# Altium schematic symbol library Connectors.SchLib: 32 symbols
Pins are listed as number, name and electrical type; pins without a type are passive.

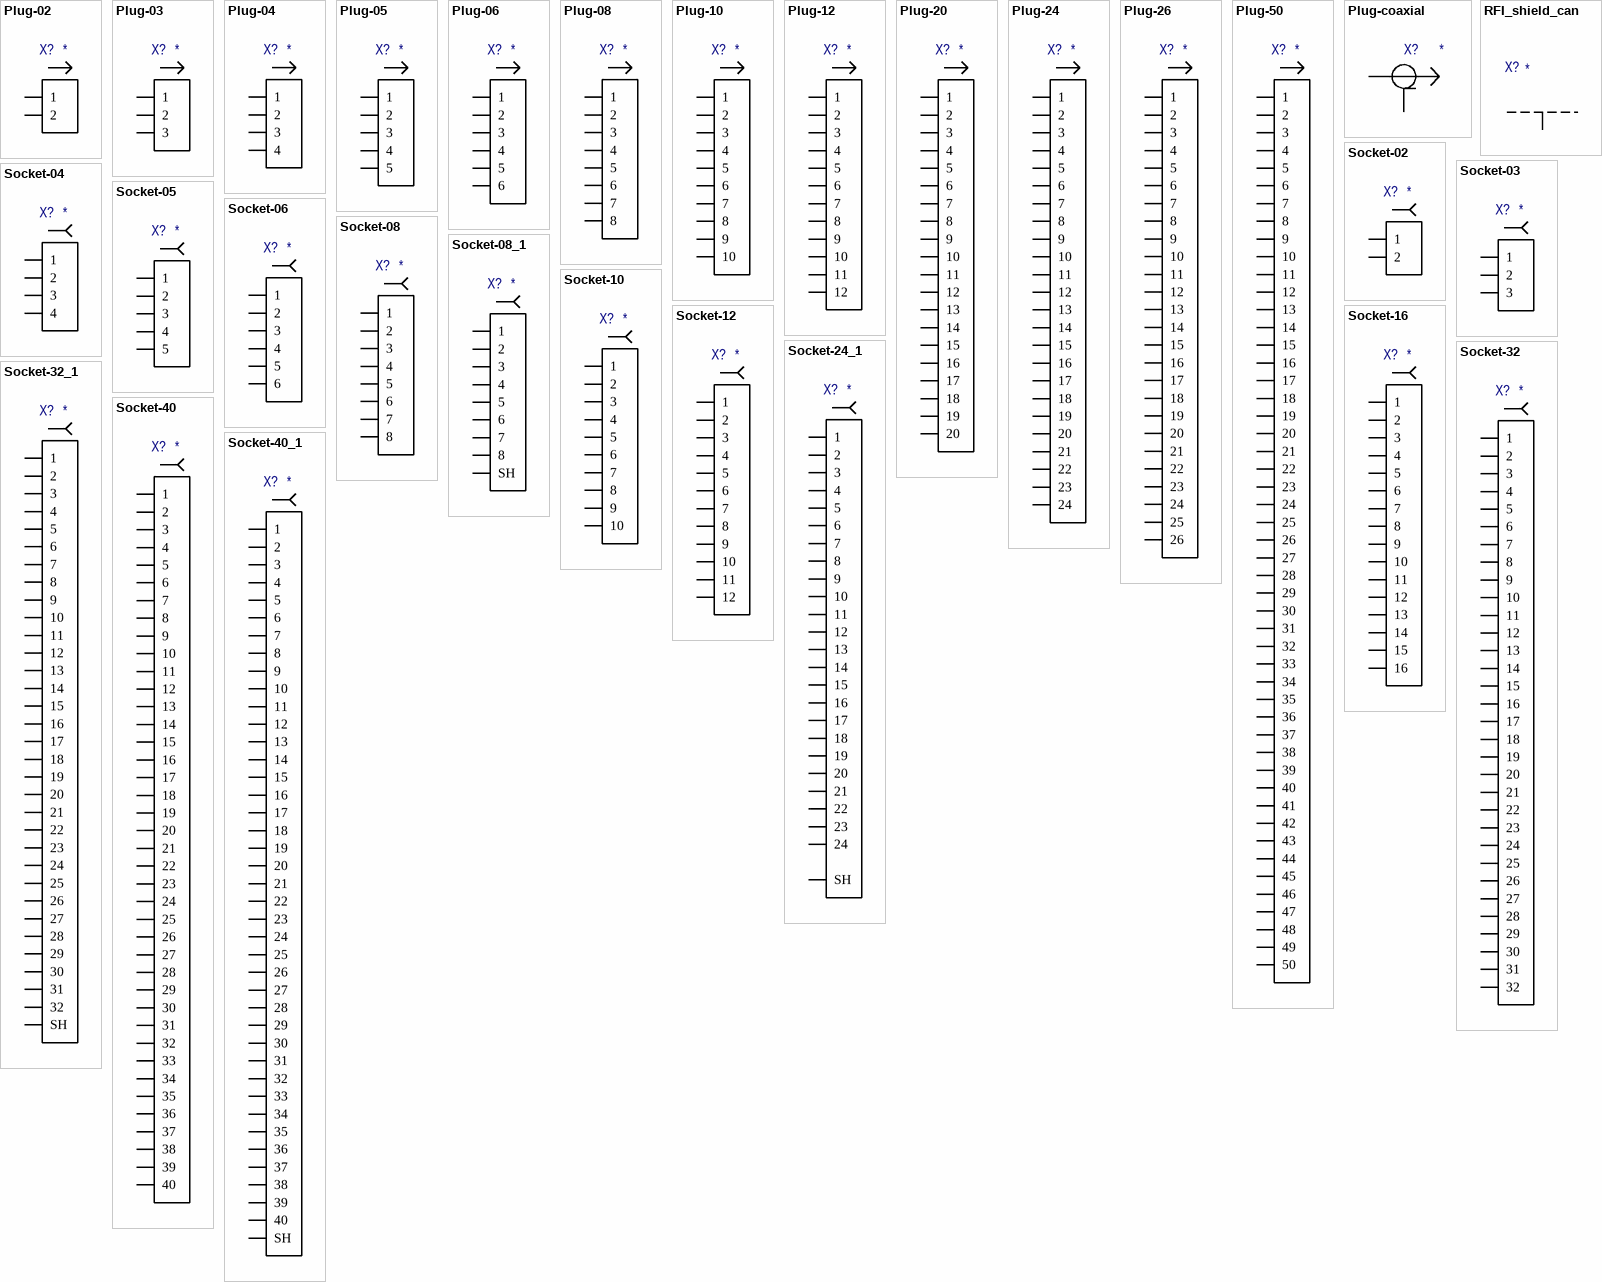
[diagram p0: symbols Plug-02 to Socket-40_1]

## Plug-02
designator X?
Manufacturer: *; Part Number: *
pins: 1, 2

## Plug-03
designator X?
Manufacturer: *; Part Number: *
pins: 1, 2, 3

## Plug-04
designator X?
Manufacturer: *; Part Number: *
pins: 1, 2, 3, 4

## Plug-05
designator X?
Manufacturer: *; Part Number: *
pins: 1, 2, 3, 4, 5

## Plug-06
designator X?
Manufacturer: *; Part Number: *
pins: 1, 2, 3, 4, 5, 6

## Plug-08
designator X?
Manufacturer: *; Part Number: *
pins: 1, 2, 3, 4, 5, 6, 7, 8

## Plug-10
designator X?
Manufacturer: *; Part Number: *
pins: 1, 2, 3, 4, 5, 6, 7, 8, 9, 10

## Plug-12
designator X?
Manufacturer: *; Part Number: *
pins: 1, 2, 3, 4, 5, 6, 7, 8, 9, 10, 11, 12

## Plug-20
designator X?
Manufacturer: *; Part Number: *
pins: 1, 2, 3, 4, 5, 6, 7, 8, 9, 10, 11, 12, 13, 14, 15, 16, 17, 18, 19, 20

## Plug-24
designator X?
Manufacturer: *; Part Number: *
pins: 1, 2, 3, 4, 5, 6, 7, 8, 9, 10, 11, 12, 13, 14, 15, 16, 17, 18, 19, 20, 21, 22, 23, 24

## Plug-26
designator X?
Manufacturer: *; Part Number: *
pins: 1, 2, 3, 4, 5, 6, 7, 8, 9, 10, 11, 12, 13, 14, 15, 16, 17, 18, 19, 20, 21, 22, 23, 24, 25, 26

## Plug-50
designator X?
Manufacturer: *; Part Number: *
pins: 1, 2, 3, 4, 5, 6, 7, 8, 9, 10, 11, 12, 13, 14, 15, 16, 17, 18, 19, 20, 21, 22, 23, 24, 25, 26, 27, 28, 29, 30, 31, 32, 33, 34, 35, 36, 37, 38, 39, 40, 41, 42, 43, 44, 45, 46, 47, 48, 49, 50

## Plug-coaxial
designator X?
Вилка коаксиального разъема; Manufacturer: *; Part Number: *
pins: 1, 2

## RFI_shield_can
designator X?
Резонатор кварцевый; Part Number: *; Manufacturer: *
pins: PAD

## Socket-02
designator X?
Гнездо разъема, 2 контакта.; Manufacturer: *; Part Number: *
pins: 1, 2

## Socket-03
designator X?
Гнездо разъема, 3 контакта.; Manufacturer: *; Part Number: *
pins: 1, 2, 3

## Socket-04
designator X?
Гнездо разъема, 4 контакта.; Manufacturer: *; Part Number: *
pins: 1, 2, 3, 4

## Socket-05
designator X?
Гнездо разъема, 6 контактов.; Manufacturer: *; Part Number: *
pins: 1, 2, 3, 4, 5

## Socket-06
designator X?
Гнездо разъема, 6 контактов.; Manufacturer: *; Part Number: *
pins: 1, 2, 3, 4, 5, 6

## Socket-08
designator X?
Гнездо разъема, 8 контактов.; Manufacturer: *; Part Number: *
pins: 1, 2, 3, 4, 5, 6, 7, 8

## Socket-08_1
designator X?
Гнездо разъема, 8 контактов.; Manufacturer: *; Part Number: *
pins: 1, 2, 3, 4, 5, 6, 7, 8, SH

## Socket-10
designator X?
Гнездо разъема, 10 контактов.; Manufacturer: *; Part Number: *
pins: 1, 2, 3, 4, 5, 6, 7, 8, 9, 10

## Socket-12
designator X?
Гнездо разъема, 12 контактов.; Manufacturer: *; Part Number: *
pins: 1, 2, 3, 4, 5, 6, 7, 8, 9, 10, 11, 12

## Socket-16
designator X?
Гнездо разъема, 16 контактов.; Manufacturer: *; Part Number: *
pins: 1, 2, 3, 4, 5, 6, 7, 8, 9, 10, 11, 12, 13, 14, 15, 16

## Socket-24_1
designator X?
Гнездо разъема, 16 контактов.; Manufacturer: *; Part Number: *
pins: 1, 2, 3, 4, 5, 6, 7, 8, 9, 10, 11, 12, 13, 14, 15, 16, 17, 18, 19, 20, 21, 22, 23, 24, SH

## Socket-32
designator X?
Гнездо разъема, 16 контактов.; Manufacturer: *; Part Number: *
pins: 1, 2, 3, 4, 5, 6, 7, 8, 9, 10, 11, 12, 13, 14, 15, 16, 17, 18, 19, 20, 21, 22, 23, 24, 25, 26, 27, 28, 29, 30, 31, 32

## Socket-32_1
designator X?
Гнездо разъема, 16 контактов.; Manufacturer: *; Part Number: *
pins: 1, 2, 3, 4, 5, 6, 7, 8, 9, 10, 11, 12, 13, 14, 15, 16, 17, 18, 19, 20, 21, 22, 23, 24, 25, 26, 27, 28, 29, 30, 31, 32, SH

## Socket-40
designator X?
Гнездо разъема, 16 контактов.; Manufacturer: *; Part Number: *
pins: 1, 2, 3, 4, 5, 6, 7, 8, 9, 10, 11, 12, 13, 14, 15, 16, 17, 18, 19, 20, 21, 22, 23, 24, 25, 26, 27, 28, 29, 30, 31, 32, 33, 34, 35, 36, 37, 38, 39, 40

## Socket-40_1
designator X?
Гнездо разъема, 16 контактов.; Manufacturer: *; Part Number: *
pins: 1, 2, 3, 4, 5, 6, 7, 8, 9, 10, 11, 12, 13, 14, 15, 16, 17, 18, 19, 20, 21, 22, 23, 24, 25, 26, 27, 28, 29, 30, 31, 32, 33, 34, 35, 36, 37, 38, 39, 40, SH

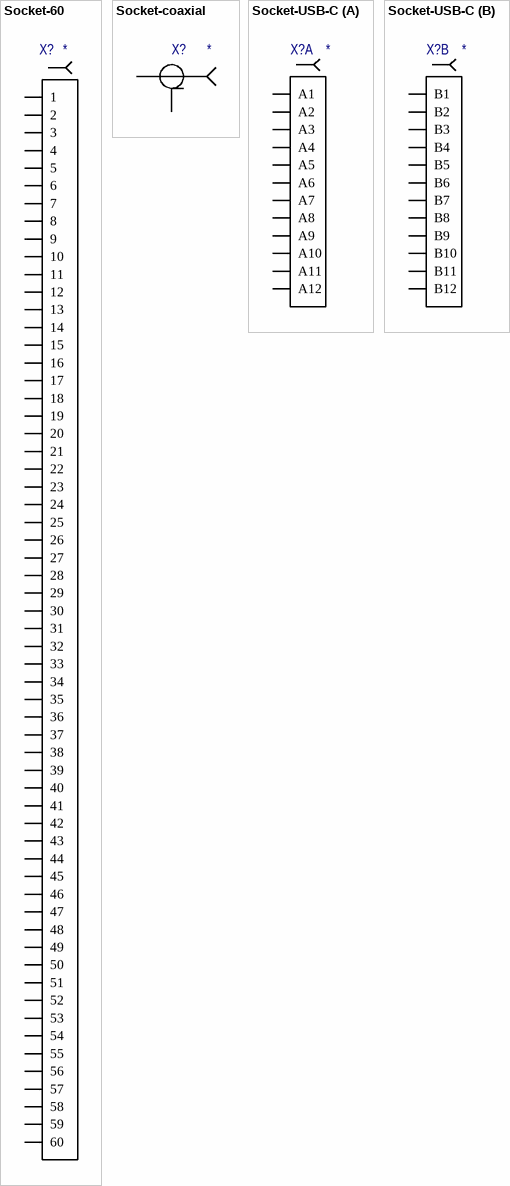
[diagram p1: symbols Socket-60 to Socket-USB-C]

## Socket-60
designator X?
Гнездо разъема, 16 контактов.; Manufacturer: *; Part Number: *
pins: 1, 2, 3, 4, 5, 6, 7, 8, 9, 10, 11, 12, 13, 14, 15, 16, 17, 18, 19, 20, 21, 22, 23, 24, 25, 26, 27, 28, 29, 30, 31, 32, 33, 34, 35, 36, 37, 38, 39, 40, 41, 42, 43, 44, 45, 46, 47, 48, 49, 50, 51, 52, 53, 54, 55, 56, 57, 58, 59, 60

## Socket-coaxial
designator X?
Гнездо коаксиального разъема; Manufacturer: *; Part Number: *
pins: 1, 2

## Socket-USB-C
designator X?
Гнездо разъема, 24 контакта.; Manufacturer: *; Part Number: *
part A pins: A1, A2, A3, A4, A5, A6, A7, A8, A9, A10, A11, A12
part B pins: B1, B2, B3, B4, B5, B6, B7, B8, B9, B10, B11, B12